# Altium schematic symbol library CI1104M1VR0-NH.SchLib: 1 symbol
Pins are listed as number, name and electrical type; pins without a type are passive.

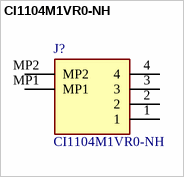
[diagram p0: symbol CI1104M1VR0-NH]

## CI1104M1VR0-NH
designator J?
Connector Header Surface Mount 4 position 0.039" (1.00mm); Manufacturer_Name: CivLux; Geometry.Height: 5.1mm; Manufacturer_Part_Number: CI1104M1VR0-NH; Mouser Part Number: *; Mouser Price/Stock: *; Arrow Part Number: *; Arrow Price/Stock: *; Datasheet Link: https://www.cvilux.com/uploads/drawings/100/224/CI1152S.pdf
footprint CI1104M1VR0NH
pins: 1, 2, 3, 4, MP1, MP2